# Altium footprint library C0805(2012)x0.65.PcbLib: 1 footprints
Each footprint in its own frame and in the unit in brackets; x right, y up, seen from the top. Pads: shape width x height; smd on the part's side, far side on the other; paste and mask are expansions set on the pad; w line width, h text height; cw(c..) or ccw(c..) is an arc to the next point about the centre after c.
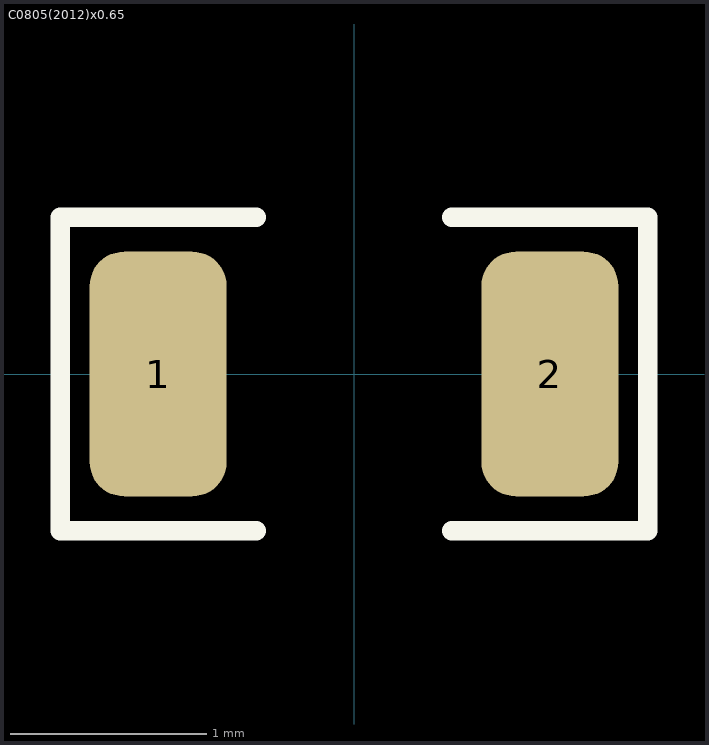
[diagram p0: the footprint, top view; thin cyan lines are the x and y axes]

## C0805(2012)x0.65 [mm]
height 0.65
pads (2):
  rrect50% 0.7x1.25 smd: 1(-1,0) 2(1,0)
Top Overlay:
  lines w0.1: -0.5,-0.8 -1.5,-0.8 -1.5,0.8 -0.5,0.8 ; 0.5,-0.8 1.5,-0.8 1.5,0.8 0.5,0.8
3D body "Cap 0805(2012)x65N.STEP": height 0.66, standoff 0, extent -1,-0.625 1,0.625